# EAGLE library part LM301A (library PEAC)
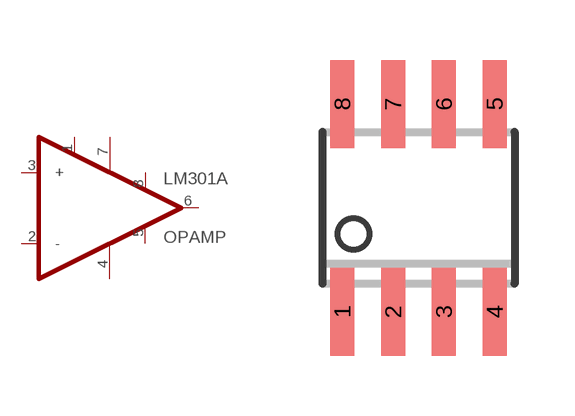
[diagram p29: symbol with the pads of SOIC8; footprint SOIC8]

Designator prefix OPAMP

## LM301AD  [SOIC8]
1  BAL#1
2  -  in
3  +  in
4  VCC-  sup
5  BAL
6  OUT_A  out
7  VCC+  sup
8  BAL

## Footprint SOIC8 (pad centres in mm)
Small Outline IC
smd 0.6 x 2.2: 1 -1.905,-2.6; 2 -0.635,-2.6; 3 0.635,-2.6; 4 1.905,-2.6; 5 1.905,2.6; 6 0.635,2.6; 7 -0.635,2.6; 8 -1.905,2.6